# EAGLE library part MT3332_GPS (library Mediatek)
MT3332_GPS
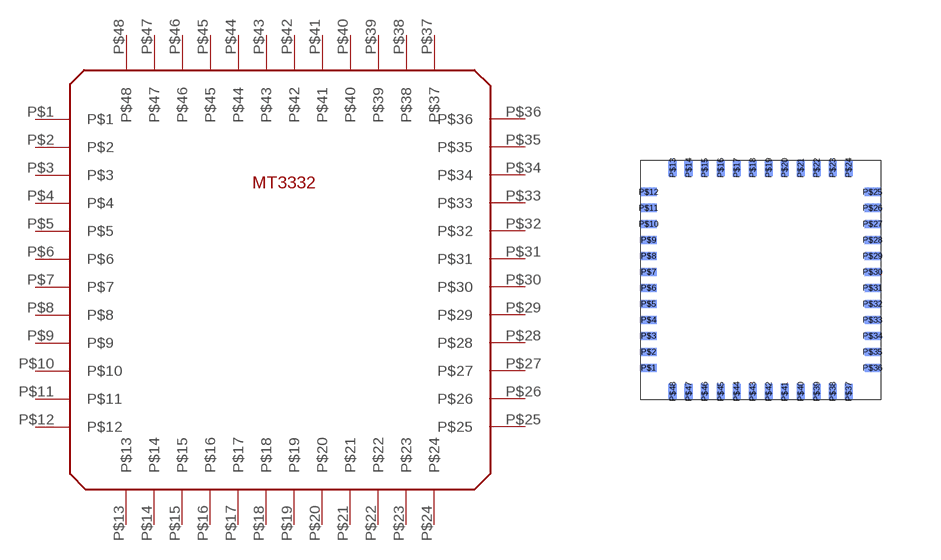
[diagram p1: symbol with the pads of MT3332_GPS; footprint MT3332_GPS]

Designator prefix -

## MT3332_GPS  [MT3332_GPS]
P$1  P$1
P$2  P$2
P$3  P$3
P$4  P$4
P$5  P$5
P$6  P$6
P$7  P$7
P$8  P$8
P$9  P$9
P$10  P$10
P$11  P$11
P$12  P$12
P$13  P$13
P$14  P$14
P$15  P$15
P$16  P$16
P$17  P$17
P$18  P$18
P$19  P$19
P$20  P$20
P$21  P$21
P$22  P$22
P$23  P$23
P$24  P$24
P$25  P$25
P$26  P$26
P$27  P$27
P$28  P$28
P$29  P$29
P$30  P$30
P$31  P$31
P$32  P$32
P$33  P$33
P$34  P$34
P$35  P$35
P$36  P$36
P$37  P$37
P$38  P$38
P$39  P$39
P$40  P$40
P$41  P$41
P$42  P$42
P$43  P$43
P$44  P$44
P$45  P$45
P$46  P$46
P$47  P$47
P$48  P$48

## Footprint MT3332_GPS (pad centres in mm)
smd 0.4 x 0.2 bottom: P$1 -2.8,-2.2; P$2 -2.8,-1.8; P$3 -2.8,-1.4; P$4 -2.8,-1; P$5 -2.8,-0.6; P$6 -2.8,-0.2; P$7 -2.8,0.2; P$8 -2.8,0.6; P$9 -2.8,1; P$10 -2.8,1.4; P$11 -2.8,1.8; P$12 -2.8,2.2; P$25 2.8,2.2; P$26 2.8,1.8; P$27 2.8,1.4; P$28 2.8,1; P$29 2.8,0.6; P$30 2.8,0.2; P$31 2.8,-0.2; P$32 2.8,-0.6; P$33 2.8,-1; P$34 2.8,-1.4; P$35 2.8,-1.8; P$36 2.8,-2.2
smd 0.2 x 0.4 bottom: P$13 -2.2,2.8; P$14 -1.8,2.8; P$15 -1.4,2.8; P$16 -1,2.8; P$17 -0.6,2.8; P$18 -0.2,2.8; P$19 0.2,2.8; P$20 0.6,2.8; P$21 1,2.8; P$22 1.4,2.8; P$23 1.8,2.8; P$24 2.2,2.8; P$37 2.2,-2.8; P$38 1.8,-2.8; P$39 1.4,-2.8; P$40 1,-2.8; P$41 0.6,-2.8; P$42 0.2,-2.8; P$43 -0.2,-2.8; P$44 -0.6,-2.8; P$45 -1,-2.8; P$46 -1.4,-2.8; P$47 -1.8,-2.8; P$48 -2.2,-2.8